# Altium footprint library USB2.0_HUB_JST.PcbLib: 4 footprints
Each footprint in its own frame and in the unit in brackets; x right, y up, seen from the top. Pads: shape width x height; smd on the part's side, far side on the other; paste and mask are expansions set on the pad; w line width, h text height; cw(c..) or ccw(c..) is an arc to the next point about the centre after c.
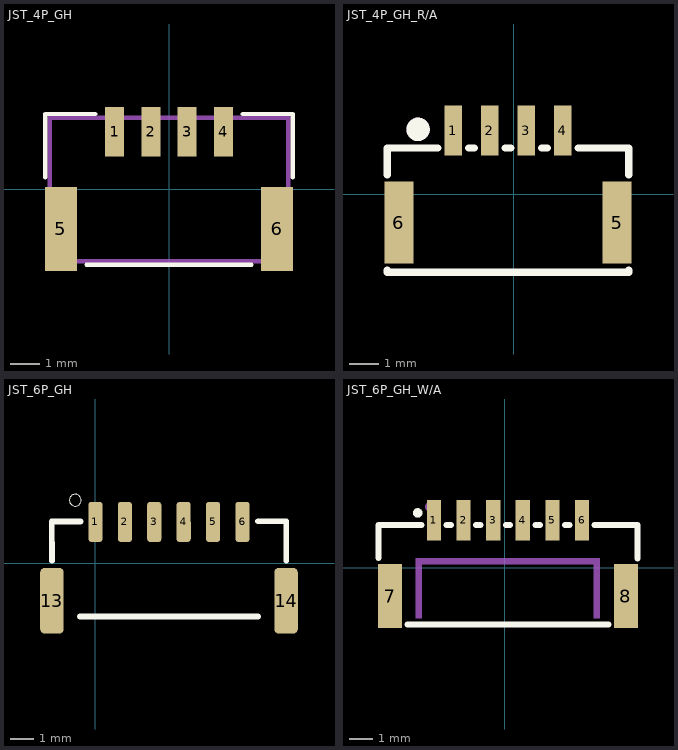
[diagram p0: the footprints below, top view; thin cyan lines are the x and y axes]

## JST_4P_GH [mil]
pads (6):
  rect 26x67 smd: 1(-73.82,77.81) 2(-24.61,77.81) 3(24.61,77.81) 4(73.82,77.81)
  rect 43x114 smd: 5(-146.65,-54.07) 6(146.65,-54.07)
Top Overlay:
  lines w6: -168,16 -168,102 -100,102 ; -112,-103 112,-103 ; 100,102 168,102 168,16
Mechanical 13:
  lines w6: -162,-98 -162,97 162,97 162,-98 -162,-98
3D body "step_temp.STEP": height 166.45, standoff 1.09, extent -162.4,-98.66 162.4,96.22

## JST_4P_GH_R/A [mm]
pads (6):
  rect 0.6x1.7 smd paste+0 mask+0.05: 1(-2.068,2.18) 2(-0.818,2.18) 3(0.432,2.18) 4(1.682,2.18)
  rect 1x2.8 smd paste+0 mask+0.05: 5(3.532,-0.97) 6(-3.918,-0.97)
Top Overlay:
  circle w0.4: c-3.265,2.218 r0.2
  lines w0.254: -4.318,-2.601 -4.318,-2.667 3.932,-2.667 3.932,-2.601 ; -4.318,0.661 -4.318,1.583 -2.599,1.583 ; -1.537,1.583 -1.349,1.583 ; -0.287,1.583 -0.099,1.583 ; 0.963,1.583 1.151,1.583 ; 2.213,1.583 3.932,1.583 3.932,0.661
Mechanical 15:
  circle w0.4: c-3.265,2.218 r0.2
3D body "4P JST.stp": height 4.38, standoff 0.03, extent -4.252,-2.413 3.999,2.587

## JST_6P_GH [mm]
pads (8):
  rrect40% 0.6x1.7 smd rot 0.05: 1(0.015,1.761) 2(1.266,1.761) 3(2.515,1.761) 4(3.766,1.761) 5(5.016,1.761) 6(6.266,1.761)
  rrect40% 1x2.8 smd: 13(-1.834,-1.589) 14(8.117,-1.589)
Top Overlay:
  circle w0: c-0.841,2.684 r0.25
  lines w0.25: -1.84,1.774 -1.838,0.112 ; -1.816,1.782 -0.612,1.781 ; -0.649,-2.261 6.932,-2.261 ; 6.919,1.789 8.123,1.788 ; 8.124,1.774 8.125,0.112
3D body "step_temp.STEP": height 4.23, standoff 0.03, extent -2.2,-2.887 8.55,2.063

## JST_6P_GH_W/A [mm]
pads (8):
  rect 0.6x1.7 smd paste+0 mask+0.051: 1(-2.998,2.01) 2(-1.748,2.01) 3(-0.498,2.01) 4(0.752,2.01) 5(2.002,2.01) 6(3.252,2.01)
  rect 1x2.7 smd paste+0 mask+0.051: 7(-4.848,-1.19) 8(5.102,-1.19)
Top Overlay:
  circle w0.2: c-3.683,2.315 r0.1
  lines w0.254: -5.334,0.41 -5.334,1.807 -3.529,1.807 ; -4.117,-2.384 4.371,-2.384 ; -2.467,1.807 -2.279,1.807 ; -1.217,1.807 -1.029,1.807 ; 0.033,1.807 0.221,1.807 ; 1.283,1.807 1.471,1.807 ; 2.533,1.807 2.721,1.807 ; 3.783,1.807 5.588,1.807 5.588,0.391
Mechanical 15:
  circle w0.2: c-3.175,2.569 r0.1
  region: -3.759,-2.13 -3.759,0.41 3.988,0.41 3.988,-2.13 3.734,-2.13 3.734,0.156 -3.505,0.156 -3.505,-2.13
3D body "6P JST.stp": height 4.38, standoff 0.03, extent -5.249,-2.286 5.502,2.514